# Altium schematic symbol library Fuses.SchLib: 4 symbols
Pins are listed as number, name and electrical type; pins without a type are passive.

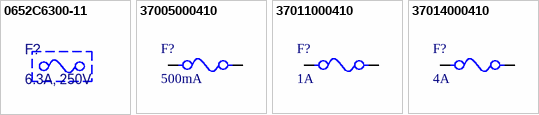
[diagram p0: symbols 0652C6300-11 to 37014000410]

## 0652C6300-11
designator F?, comment 6.3A, 250V  (mechanical)
FUSE GLASS 6.3A 250VAC 5X20MM; Manufacturer: Bel Fuse; Manufacturer Part Number: 0652C6300-11; Supplier: DigiKey; Supplier Part Number: 5923-0652C6300-11-ND; RoHS: Compliant; Category: Fuses; Stock: 939; Pricing: 1=0.7, 5=0.578, 10=0.533, 50=0.4422, 100=0.408, 250=0.36672, 500=0.33824, 1000=0.31188, 5000=0.25785 (USD); China RoHS: Compliant; Current Rating: 6.3A; Export Control Classification Number (ECCN) Code: EAR99; Height: 20mm; Introduction Date: 2024-09-20; Length: 5mm; Lifecycle Status: Production; Max Operating Temperature: 125°C; Min Operating Temperature: -55°C; Packaging: Bulk; REACH SVHC: Yes; Voltage Rating (AC): 250V; ComponentLink1URL: https://datasheet.octopart.com:443/0652C6300-11-Bel-Fuse-datasheet-183197481.pdf?src-supplier=Electro+Sonic; ComponentLink1Description: https://datasheet.octopart.com:443/0652C6300-11-Bel-Fuse-datasheet-183197481.pdf?src-supplier=Electro+Sonic

## 37005000410
designator F?, comment 500mA
FUSE BOARD MNT 500MA 250VAC RADIAL; Manufacturer: Littelfuse Wickmann; Manufacturer Part Number: 37005000410; Blow Characteristic: FAST; Circuit Protection Type: Electric Fuse; Fuse Size: TR5; Joule-integral-Nom: 0.042J; Rated Breaking Capacity: 35A; Voltage Rating: 250V; Body Height: 8mm; Body Length or Diameter: 8.5mm; Reference Standard: UL; Supplier: Digikey; Supplier Part Number: WK4941BK-ND; RoHS: Yes; Category: Fuses; Stock: 3748; Pricing: 1=0.8, 5=0.774, 10=0.724, 50=0.599, 100=0.4992, 250=0.48676, 500=0.41186, 1000=0.36194, 5000=0.34288 (USD); Mounting Technology: Through Hole; Terminal Finish: Tin; Min Operating Temperature: -40°C; Max Operating Temperature: 85°C; JESD-609 Code: e3; Packaging: Bulk; Current Rating: 500mA; Voltage Rating (AC): 250V; Termination: Pin Wire; Reach SVHC Compliant: Yes; RoHS Compliant: Yes; ComponentLink1URL: https://datasheet.ciiva.com:443/pdfs/VipMasterIC/IC/LFSI/LFSI-S-A0004921183/LFSI-S-A0007103660-1.pdf?src-supplier=IHS+Markit; ComponentLink1Description: https://datasheet.ciiva.com:443/pdfs/VipMasterIC/IC/LFSI/LFSI-S-A0004921183/LFSI-S-A0007103660-1.pdf?src-supplier=IHS+Markit; ComponentLink2URL: https://datasheet.ciiva.com/299/littelfuse-fuse-370-datasheet-pdf-299961.pdf?src-supplier=Digikey; ComponentLink2Description: https://datasheet.ciiva.com/299/littelfuse-fuse-370-datasheet-pdf-299961.pdf?src-supplier=Digikey; ComponentLink3URL: https://datasheet.ciiva.com/7645/1796764-7645418.pdf?src-supplier=Element14; ComponentLink3Description: https://datasheet.ciiva.com/7645/1796764-7645418.pdf?src-supplier=Element14; ComponentLink4URL: https://datasheet.ciiva.com/14153/370-series-eng-tds-14153961.pdf?src-supplier=Distrelec; ComponentLink4Description: https://datasheet.ciiva.com/14153/370-series-eng-tds-14153961.pdf?src-supplier=Distrelec
footprint RADIAL-8MM
pins: 1, 2

## 37011000410
designator F?, comment 1A
FUSE BOARD MNT 1A 250VAC RADIAL; Manufacturer: Littelfuse Wickmann; Manufacturer Part Number: 37011000410; Blow Characteristic: FAST; Circuit Protection Type: Electric Fuse; Fuse Size: TR5; Joule-integral-Nom: 0.2J; Rated Breaking Capacity: 35A; Voltage Rating: 250V; Body Height: 8mm; Body Length or Diameter: 8.5mm; Reference Standard: UL; Supplier: Digikey; Supplier Part Number: WK4948BK-ND; RoHS: Yes; Category: Fuses; Stock: 2168; Pricing: 1=0.8, 5=0.774, 10=0.724, 50=0.599, 100=0.4992, 250=0.48676, 500=0.41186, 1000=0.36194, 5000=0.34288 (USD); Mounting Technology: Through Hole; Terminal Finish: Tin; Min Operating Temperature: -40°C; Max Operating Temperature: 85°C; JESD-609 Code: e3; Packaging: Bulk; Current Rating: 1A; Voltage Rating (AC): 250V; Termination: Pin Wire; Reach SVHC Compliant: Yes; RoHS Compliant: Yes; ComponentLink1URL: https://datasheet.ciiva.com:443/pdfs/VipMasterIC/IC/LFSI/LFSI-S-A0004921183/LFSI-S-A0007103660-1.pdf?src-supplier=IHS+Markit; ComponentLink1Description: https://datasheet.ciiva.com:443/pdfs/VipMasterIC/IC/LFSI/LFSI-S-A0004921183/LFSI-S-A0007103660-1.pdf?src-supplier=IHS+Markit; ComponentLink2URL: https://datasheet.ciiva.com/299/littelfuse-fuse-370-datasheet-pdf-299960.pdf?src-supplier=Digikey; ComponentLink2Description: https://datasheet.ciiva.com/299/littelfuse-fuse-370-datasheet-pdf-299960.pdf?src-supplier=Digikey; ComponentLink3URL: https://datasheet.ciiva.com/8078/littelfuse-fuse-370-8078348.pdf?src-supplier=Element14; ComponentLink3Description: https://datasheet.ciiva.com/8078/littelfuse-fuse-370-8078348.pdf?src-supplier=Element14; ComponentLink4URL: https://datasheet.ciiva.com/14153/370-series-eng-tds-14153963.pdf?src-supplier=Distrelec; ComponentLink4Description: https://datasheet.ciiva.com/14153/370-series-eng-tds-14153963.pdf?src-supplier=Distrelec; ComponentLink5URL: https://datasheet.ciiva.com/4484/littelfuse-fuse-370-datasheet-pdf-357362-4484671.pdf?src-supplier=Mouser; ComponentLink5Description: https://datasheet.ciiva.com/4484/littelfuse-fuse-370-datasheet-pdf-357362-4484671.pdf?src-supplier=Mouser; ComponentLink6URL: https://datasheet.ciiva.com/26828/getdatasheetpartid-68708-26828603.pdf?src-supplier=Verical; ComponentLink6Description: https://datasheet.ciiva.com/26828/getdatasheetpartid-68708-26828603.pdf?src-supplier=Verical
footprint RADIAL-8MM
pins: 1, 2

## 37014000410
designator F?, comment 4A
FUSE BOARD MNT 4A 250VAC RADIAL; Manufacturer: Littelfuse Wickmann; Manufacturer Part Number: 37014000410; Blow Characteristic: FAST; Circuit Protection Type: Electric Fuse; Fuse Size: TR5; Joule-integral-Nom: 6.7J; Rated Breaking Capacity: 40A; Voltage Rating: 250V; Body Height: 8mm; Body Length or Diameter: 8.5mm; Reference Standard: UL; Supplier: Digikey; Supplier Part Number: WK4962BK-ND; RoHS: Yes; Category: Fuses; Stock: 19469; Pricing: 1=0.8, 5=0.774, 10=0.724, 50=0.599, 100=0.4992, 250=0.48676, 500=0.41186, 1000=0.36194, 5000=0.34288 (USD); Mounting Technology: Through Hole; Terminal Finish: Tin; Min Operating Temperature: -40°C; Max Operating Temperature: 85°C; JESD-609 Code: e3; Packaging: Bulk; Current Rating: 4A; Voltage Rating (AC): 250V; Termination: Pin Wire; Reach SVHC Compliant: Yes; RoHS Compliant: Yes; ComponentLink1URL: https://datasheet.ciiva.com:443/pdfs/VipMasterIC/IC/LFSI/LFSI-S-A0004921183/LFSI-S-A0007103660-1.pdf?src-supplier=IHS+Markit; ComponentLink1Description: https://datasheet.ciiva.com:443/pdfs/VipMasterIC/IC/LFSI/LFSI-S-A0004921183/LFSI-S-A0007103660-1.pdf?src-supplier=IHS+Markit; ComponentLink2URL: https://datasheet.ciiva.com/14153/03302502-14153968.pdf?src-supplier=Distrelec; ComponentLink2Description: https://datasheet.ciiva.com/14153/03302502-14153968.pdf?src-supplier=Distrelec; ComponentLink3URL: https://datasheet.ciiva.com/4483/littelfuse-fuse-370-datasheet-pdf-357362-4483258.pdf?src-supplier=Mouser; ComponentLink3Description: https://datasheet.ciiva.com/4483/littelfuse-fuse-370-datasheet-pdf-357362-4483258.pdf?src-supplier=Mouser; ComponentLink4URL: https://datasheet.ciiva.com/299/littelfuse-fuse-370-datasheet-pdf-299951.pdf?src-supplier=Digikey; ComponentLink4Description: https://datasheet.ciiva.com/299/littelfuse-fuse-370-datasheet-pdf-299951.pdf?src-supplier=Digikey
footprint RADIAL-8MM
pins: 1, 2